# EAGLE library part CC2500 (library myLib)
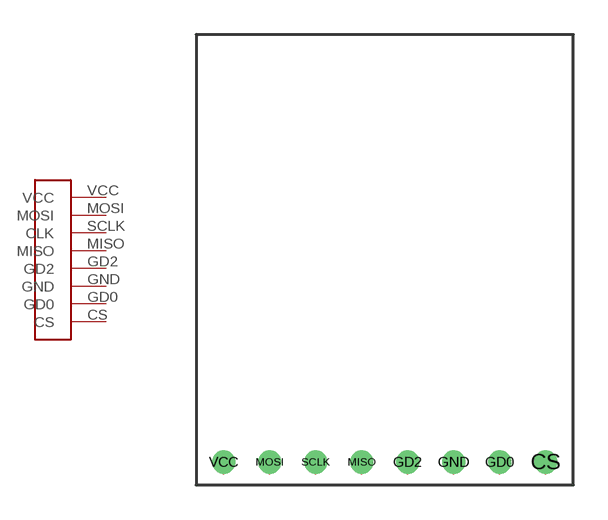
[diagram p2: symbol with the pads of MODULE; footprint MODULE]

Designator prefix -

## CC2500  [MODULE]
CS  CS
GD0  GD0
GD2  GD2
GND  GND
MISO  MISO
MOSI  MOSI
SCLK  CLK
VCC  VCC

## Footprint MODULE (pad centres in mm)
drill 0.5 pad 0.61: CS 7,0; GD0 5,0; GD2 1,0; GND 3,0; MISO -1,0; MOSI -5,0; SCLK -3,0; VCC -7,0